# EAGLE library part ADUM3221 (library KwanSystems)
Isolated gate driver
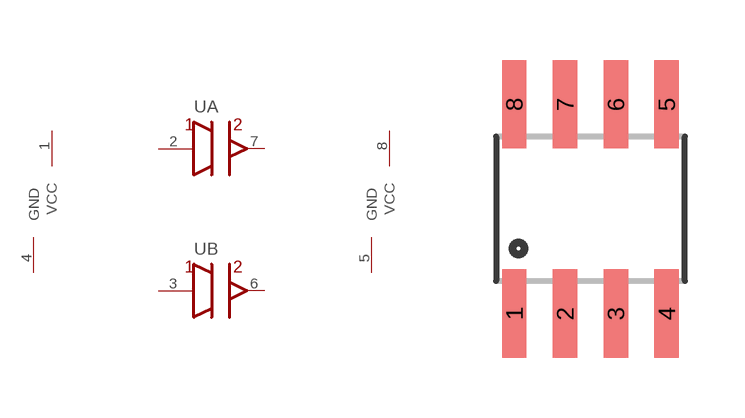
[diagram p41: symbol with the pads of SO8N; footprint SO8N]

Designator prefix -; gates A=ISOLATION_BUFFER B=ISOLATION_BUFFER INP=PWR OUTP=PWR

## ADUM3221  [SO8N]
1  INP:VCC
2  A:IN  in
3  B:IN  in
4  INP:GND
5  OUTP:GND
6  B:OUT
7  A:OUT
8  OUTP:VCC

## Footprint SO8N (pad centres in mm)
Small Outline Package Fits JEDEC packages (narrow SOIC-8)
smd 0.61 x 2.21: 1 -1.905,-2.616; 2 -0.635,-2.616; 3 0.635,-2.616; 4 1.905,-2.616; 5 1.905,2.616; 6 0.635,2.616; 7 -0.635,2.616; 8 -1.905,2.616